# EAGLE library part AD8045 (library PiB_op_amps)
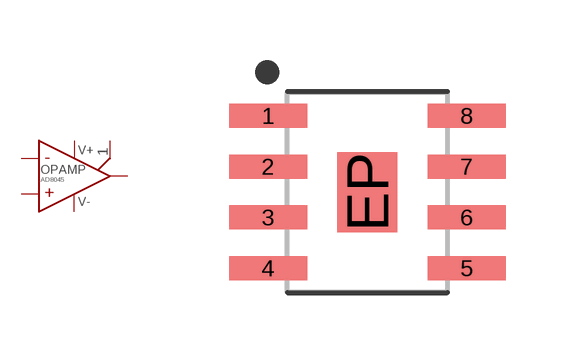
[diagram p1: symbol with the pads of SOIC127P603X175-8_EP; footprint SOIC127P603X175-8_EP]

Designator prefix OPAMP

## AD8045_AD8045_HIGH-SPEED_OP-AMP (DATASHEET: https://www.analog.com/media/en/technical-documentation/data-sheets/AD8045.pdf; DIST: Digikey; DISTLINK: https://www.digikey.com/products/en?keywords=AD8045ARDZ-REEL7CT-ND; DISTPN: AD8045ARDZ-REEL7CT-ND; MFR: Analog Devices Inc.; MPN: AD8045ARDZ-REEL7; VALUE: AD8045)  [SOIC127P603X175-8_EP]
1  FB
2  -IN  in
3  +IN  in
4  V-  pas
6  OUT  out
7  V+  pas
EP  V-  pas

## Footprint SOIC127P603X175-8_EP (pad centres in mm)
8-SOIC, 1.27 mm pitch, 6.03 mm span, 4.90 X 3.90 X 1.75 mm body 8-pin SOIC package with 1.27 mm pitch, 6.03 mm span with body size 4.90 X 3.90 X 1.75 mm
smd 1.95 x 0.599: 1 -2.484,1.905; 2 -2.484,0.635; 3 -2.484,-0.635; 4 -2.484,-1.905; 5 2.484,-1.905; 6 2.484,-0.635; 7 2.484,0.635; 8 2.484,1.905
smd 1.5 x 2: EP 0,0